# EAGLE library part HPQ-15W (library minicircuits)
POWER SPLITTER 2 WAY-90° 1310 MHz Aqueous washable Matched power rating: 1 W Non-hermetic BP: 1240 MHz - 1460 MHz Max Phase unbalance: 5° Max amplitude unbalance: 1.6 dB
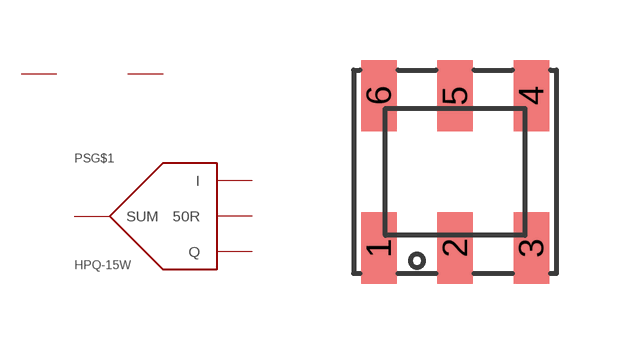
[diagram p2: symbol with the pads of AT577; footprint AT577]

Designator prefix PS; gates G$1=POWER_SPLITTER-90° G$2=GND G$3=GND

## HPQ-15W  [AT577]
1  G$1:50R
2  G$2:GND  pwr
3  G$1:SUM
4  G$1:Q
5  G$3:GND  pwr
6  G$1:I

## Footprint AT577 (pad centres in mm)
smd 0.889 x 1.778: 1 0.635,0.635; 2 2.54,0.635; 3 4.445,0.635; 4 4.445,4.445; 5 2.54,4.445; 6 0.635,4.445